# EAGLE library part PI5A319A (library ece3724)
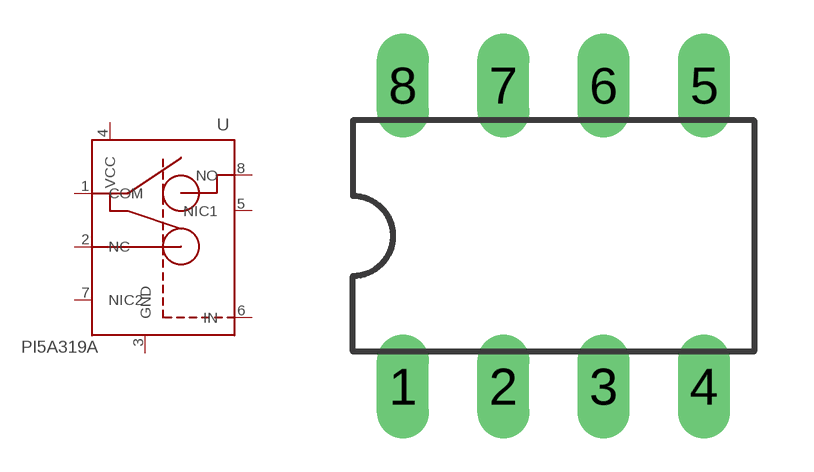
[diagram p1: symbol with the pads of DIL08; footprint DIL08]

Designator prefix -

## PI5A319A  [DIL08]
1  COM
2  NC
3  GND  pwr
4  VCC  pwr
5  NIC1  nc
6  IN  in
7  NIC2  nc
8  NO

## Footprint DIL08 (pad centres in mm)
drill 0.813 long: 1 -3.81,-3.81; 2 -1.27,-3.81; 3 1.27,-3.81; 4 3.81,-3.81; 5 3.81,3.81; 6 1.27,3.81; 7 -1.27,3.81; 8 -3.81,3.81